# Altium integrated library WE-MAIA_rev15a.intlib: 46 symbols
Pins are listed as number, name and electrical type; pins without a type are passive.

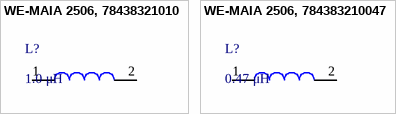
[diagram p0: symbols WE-MAIA 2506, 78438321010 to WE-MAIA 2506, 784383210047]

## WE-MAIA 2506, 78438321010
designator L?, comment 1.0 μH
WE-MAIA SMD Metal Alloy Power Inductor, Inductance = 1.0 μH; partNo: 78438321010; Manufacturer: Wurth Elektronik; Inductance: 1.0 μH; ComponentLink1Description: Manufacturer; ComponentLink1URL: http://www.we-online.de; Created by: Baojun Chen; Created Date: Nov.2015; ComponentLink2Description: Datasheet; ComponentLink2URL: http://katalog.we-online.de/pbs/datasheet/784383210047.pdf
footprint WE-MAIA_2506
pins: 1, 2

## WE-MAIA 2506, 784383210047
designator L?, comment 0.47 μH
WE-MAIA SMD Metal Alloy Power Inductor, Inductance = 0.47 μH; partNo: 784383210047; Manufacturer: Wurth Elektronik; Inductance: 0.47 μH; ComponentLink1Description: Manufacturer; ComponentLink1URL: http://www.we-online.de; Created by: Baojun Chen; Created Date: Nov.2015; ComponentLink2Description: Datasheet; ComponentLink2URL: http://katalog.we-online.de/pbs/datasheet/78438321010.pdf
footprint WE-MAIA_2506
pins: 1, 2


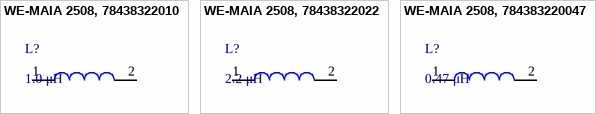
[diagram p1: symbols WE-MAIA 2508, 78438322010 to WE-MAIA 2508, 784383220047]

## WE-MAIA 2508, 78438322010
designator L?, comment 1.0 μH
WE-MAIA SMD Metal Alloy Power Inductor, Inductance = 1.0 μH; partNo: 78438322010; Manufacturer: Wurth Elektronik; Inductance: 1.0 μH; ComponentLink1Description: Manufacturer; ComponentLink1URL: http://www.we-online.de; Created by: Baojun Chen; Created Date: Nov.2015; ComponentLink2Description: Datasheet; ComponentLink2URL: http://katalog.we-online.de/pbs/datasheet/78438322010.pdf
footprint WE-MAIA_2508
pins: 1, 2

## WE-MAIA 2508, 78438322022
designator L?, comment 2.2 μH
WE-MAIA SMD Metal Alloy Power Inductor, Inductance = 2.2 μH; partNo: 78438322022; Manufacturer: Wurth Elektronik; Inductance: 2.2 μH; ComponentLink1Description: Manufacturer; ComponentLink1URL: http://www.we-online.de; Created by: Baojun Chen; Created Date: Nov.2015; ComponentLink2Description: Datasheet; ComponentLink2URL: http://katalog.we-online.de/pbs/datasheet/78438322022.pdf
footprint WE-MAIA_2508
pins: 1, 2

## WE-MAIA 2508, 784383220047
designator L?, comment 0.47 μH
WE-MAIA SMD Metal Alloy Power Inductor, Inductance = 0.47 μH; partNo: 784383220047; Manufacturer: Wurth Elektronik; Inductance: 0.47 μH; ComponentLink1Description: Manufacturer; ComponentLink1URL: http://www.we-online.de; Created by: Baojun Chen; Created Date: Nov.2015; ComponentLink2Description: Datasheet; ComponentLink2URL: http://katalog.we-online.de/pbs/datasheet/784383220047.pdf
footprint WE-MAIA_2508
pins: 1, 2


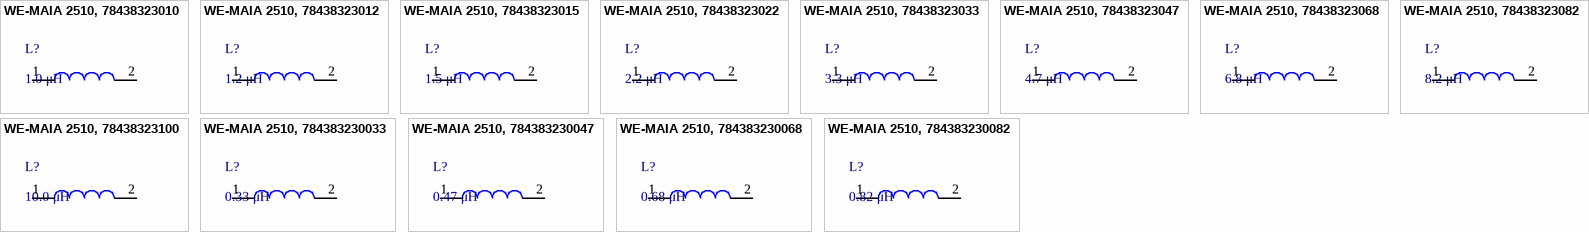
[diagram p2: symbols WE-MAIA 2510, 78438323010 to WE-MAIA 2510, 784383230082]

## WE-MAIA 2510, 78438323010
designator L?, comment 1.0 μH
WE-MAIA SMD Metal Alloy Power Inductor, Inductance = 1.0 μH; partNo: 78438323010; Manufacturer: Wurth Elektronik; Inductance: 1.0 μH; ComponentLink1Description: Manufacturer; ComponentLink1URL: http://www.we-online.de; Created by: Baojun Chen; Created Date: Nov.2015; ComponentLink2Description: Datasheet; ComponentLink2URL: http://katalog.we-online.de/pbs/datasheet/78438323010.pdf
footprint WE-MAIA_2510
pins: 1, 2

## WE-MAIA 2510, 78438323012
designator L?, comment 1.2 μH
WE-MAIA SMD Metal Alloy Power Inductor, Inductance = 1.2 μH; partNo: 78438323012; Manufacturer: Wurth Elektronik; Inductance: 1.2 μH; ComponentLink1Description: Manufacturer; ComponentLink1URL: http://www.we-online.de; Created by: Baojun Chen; Created Date: Nov.2015; ComponentLink2Description: Datasheet; ComponentLink2URL: http://katalog.we-online.de/pbs/datasheet/78438323012.pdf
footprint WE-MAIA_2510
pins: 1, 2

## WE-MAIA 2510, 78438323015
designator L?, comment 1.5 μH
WE-MAIA SMD Metal Alloy Power Inductor, Inductance = 1.5 μH; partNo: 78438323015; Manufacturer: Wurth Elektronik; Inductance: 1.5 μH; ComponentLink1Description: Manufacturer; ComponentLink1URL: http://www.we-online.de; Created by: Baojun Chen; Created Date: Nov.2015; ComponentLink2Description: Datasheet; ComponentLink2URL: http://katalog.we-online.de/pbs/datasheet/78438323015.pdf
footprint WE-MAIA_2510
pins: 1, 2

## WE-MAIA 2510, 78438323022
designator L?, comment 2.2 μH
WE-MAIA SMD Metal Alloy Power Inductor, Inductance = 2.2 μH; partNo: 78438323022; Manufacturer: Wurth Elektronik; Inductance: 2.2 μH; ComponentLink1Description: Manufacturer; ComponentLink1URL: http://www.we-online.de; Created by: Baojun Chen; Created Date: Nov.2015; ComponentLink2Description: Datasheet; ComponentLink2URL: http://katalog.we-online.de/pbs/datasheet/78438323022.pdf
footprint WE-MAIA_2510
pins: 1, 2

## WE-MAIA 2510, 78438323033
designator L?, comment 3.3 μH
WE-MAIA SMD Metal Alloy Power Inductor, Inductance = 3.3 μH; partNo: 78438323033; Manufacturer: Wurth Elektronik; Inductance: 3.3 μH; ComponentLink1Description: Manufacturer; ComponentLink1URL: http://www.we-online.de; Created by: Baojun Chen; Created Date: Nov.2015; ComponentLink2Description: Datasheet; ComponentLink2URL: http://katalog.we-online.de/pbs/datasheet/78438323033.pdf
footprint WE-MAIA_2510
pins: 1, 2

## WE-MAIA 2510, 78438323047
designator L?, comment 4.7 μH
WE-MAIA SMD Metal Alloy Power Inductor, Inductance = 4.7 μH; partNo: 78438323047; Manufacturer: Wurth Elektronik; Inductance: 4.7 μH; ComponentLink1Description: Manufacturer; ComponentLink1URL: http://www.we-online.de; Created by: Baojun Chen; Created Date: Nov.2015; ComponentLink2Description: Datasheet; ComponentLink2URL: http://katalog.we-online.de/pbs/datasheet/78438323047.pdf
footprint WE-MAIA_2510
pins: 1, 2

## WE-MAIA 2510, 78438323068
designator L?, comment 6.8 μH
WE-MAIA SMD Metal Alloy Power Inductor, Inductance = 6.8 μH; partNo: 78438323068; Manufacturer: Wurth Elektronik; Inductance: 6.8 μH; ComponentLink1Description: Manufacturer; ComponentLink1URL: http://www.we-online.de; Created by: Baojun Chen; Created Date: Nov.2015; ComponentLink2Description: Datasheet; ComponentLink2URL: http://katalog.we-online.de/pbs/datasheet/78438323068.pdf
footprint WE-MAIA_2510
pins: 1, 2

## WE-MAIA 2510, 78438323082
designator L?, comment 8.2 μH
WE-MAIA SMD Metal Alloy Power Inductor, Inductance = 8.2 μH; partNo: 78438323082; Manufacturer: Wurth Elektronik; Inductance: 8.2 μH; ComponentLink1Description: Manufacturer; ComponentLink1URL: http://www.we-online.de; Created by: Baojun Chen; Created Date: Nov.2015; ComponentLink2Description: Datasheet; ComponentLink2URL: http://katalog.we-online.de/pbs/datasheet/78438323082.pdf
footprint WE-MAIA_2510
pins: 1, 2

## WE-MAIA 2510, 78438323100
designator L?, comment 10.0 μH
WE-MAIA SMD Metal Alloy Power Inductor, Inductance = 10.0 μH; partNo: 78438323100; Manufacturer: Wurth Elektronik; Inductance: 10.0 μH; ComponentLink1Description: Manufacturer; ComponentLink1URL: http://www.we-online.de; Created by: Baojun Chen; Created Date: Nov.2015; ComponentLink2Description: Datasheet; ComponentLink2URL: http://katalog.we-online.de/pbs/datasheet/78438323100.pdf
footprint WE-MAIA_2510
pins: 1, 2

## WE-MAIA 2510, 784383230033
designator L?, comment 0.33 μH
WE-MAIA SMD Metal Alloy Power Inductor, Inductance = 0.33 μH; partNo: 784383230033; Manufacturer: Wurth Elektronik; Inductance: 0.33 μH; ComponentLink1Description: Manufacturer; ComponentLink1URL: http://www.we-online.de; Created by: Baojun Chen; Created Date: Nov.2015; ComponentLink2Description: Datasheet; ComponentLink2URL: http://katalog.we-online.de/pbs/datasheet/784383230033.pdf
footprint WE-MAIA_2510
pins: 1, 2

## WE-MAIA 2510, 784383230047
designator L?, comment 0.47 μH
WE-MAIA SMD Metal Alloy Power Inductor, Inductance = 0.47 μH; partNo: 784383230047; Manufacturer: Wurth Elektronik; Inductance: 0.47 μH; ComponentLink1Description: Manufacturer; ComponentLink1URL: http://www.we-online.de; Created by: Baojun Chen; Created Date: Nov.2015; ComponentLink2Description: Datasheet; ComponentLink2URL: http://katalog.we-online.de/pbs/datasheet/784383230047.pdf
footprint WE-MAIA_2510
pins: 1, 2

## WE-MAIA 2510, 784383230068
designator L?, comment 0.68 μH
WE-MAIA SMD Metal Alloy Power Inductor, Inductance = 0.68 μH; partNo: 784383230068; Manufacturer: Wurth Elektronik; Inductance: 0.68 μH; ComponentLink1Description: Manufacturer; ComponentLink1URL: http://www.we-online.de; Created by: Baojun Chen; Created Date: Nov.2015; ComponentLink2Description: Datasheet; ComponentLink2URL: http://katalog.we-online.de/pbs/datasheet/784383230068.pdf
footprint WE-MAIA_2510
pins: 1, 2

## WE-MAIA 2510, 784383230082
designator L?, comment 0.82 μH
WE-MAIA SMD Metal Alloy Power Inductor, Inductance = 0.82 μH; partNo: 784383230082; Manufacturer: Wurth Elektronik; Inductance: 0.82 μH; ComponentLink1Description: Manufacturer; ComponentLink1URL: http://www.we-online.de; Created by: Baojun Chen; Created Date: Nov.2015; ComponentLink2Description: Datasheet; ComponentLink2URL: http://katalog.we-online.de/pbs/datasheet/784383230082.pdf
footprint WE-MAIA_2510
pins: 1, 2


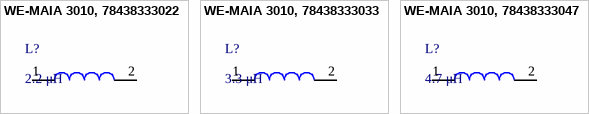
[diagram p3: symbols WE-MAIA 3010, 78438333022 to WE-MAIA 3010, 78438333047]

## WE-MAIA 3010, 78438333022
designator L?, comment 2.2 μH
WE-MAIA SMD Metal Alloy Power Inductor, Inductance = 2.2 μH; partNo: 78438333022; Manufacturer: Wurth Elektronik; Inductance: 2.2 μH; ComponentLink1Description: Manufacturer; ComponentLink1URL: http://www.we-online.de; Created by: Baojun Chen; Created Date: Nov.2015; ComponentLink2Description: Datasheet; ComponentLink2URL: http://katalog.we-online.de/pbs/datasheet/78438333022.pdf
footprint WE-MAIA_3010
pins: 1, 2

## WE-MAIA 3010, 78438333033
designator L?, comment 3.3 μH
WE-MAIA SMD Metal Alloy Power Inductor, Inductance = 3.3 μH; partNo: 78438333033; Manufacturer: Wurth Elektronik; Inductance: 3.3 μH; ComponentLink1Description: Manufacturer; ComponentLink1URL: http://www.we-online.de; Created by: Baojun Chen; Created Date: Nov.2015; ComponentLink2Description: Datasheet; ComponentLink2URL: http://katalog.we-online.de/pbs/datasheet/78438333033.pdf
footprint WE-MAIA_3010
pins: 1, 2

## WE-MAIA 3010, 78438333047
designator L?, comment 4.7 μH
WE-MAIA SMD Metal Alloy Power Inductor, Inductance = 4.7 μH; partNo: 78438333047; Manufacturer: Wurth Elektronik; Inductance: 4.7 μH; ComponentLink1Description: Manufacturer; ComponentLink1URL: http://www.we-online.de; Created by: Baojun Chen; Created Date: Nov.2015; ComponentLink2Description: Datasheet; ComponentLink2URL: http://katalog.we-online.de/pbs/datasheet/78438333047.pdf
footprint WE-MAIA_3010
pins: 1, 2


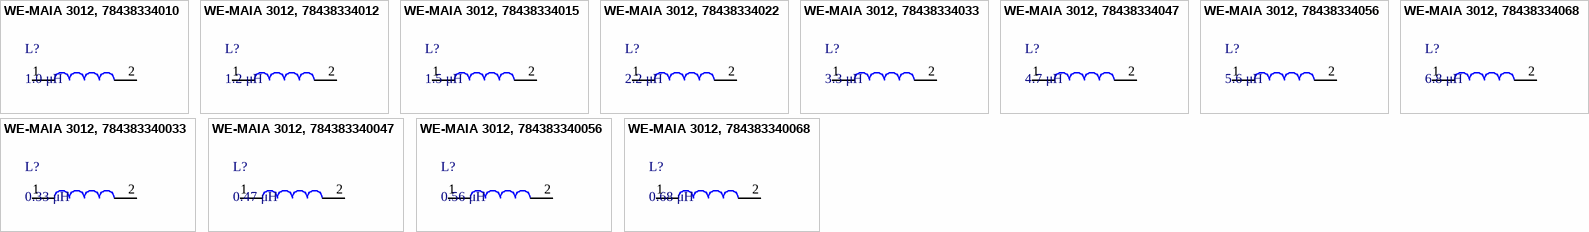
[diagram p4: symbols WE-MAIA 3012, 78438334010 to WE-MAIA 3012, 784383340068]

## WE-MAIA 3012, 78438334010
designator L?, comment 1.0 μH
WE-MAIA SMD Metal Alloy Power Inductor, Inductance = 1.0 μH; partNo: 78438334010; Manufacturer: Wurth Elektronik; Inductance: 1.0 μH; ComponentLink1Description: Manufacturer; ComponentLink1URL: http://www.we-online.de; Created by: Baojun Chen; Created Date: Nov.2015; ComponentLink2Description: Datasheet; ComponentLink2URL: http://katalog.we-online.de/pbs/datasheet/78438334010.pdf
footprint WE-MAIA_3012
pins: 1, 2

## WE-MAIA 3012, 78438334012
designator L?, comment 1.2 μH
WE-MAIA SMD Metal Alloy Power Inductor, Inductance = 1.2 μH; partNo: 78438334012; Manufacturer: Wurth Elektronik; Inductance: 1.2 μH; ComponentLink1Description: Manufacturer; ComponentLink1URL: http://www.we-online.de; Created by: Baojun Chen; Created Date: Nov.2015; ComponentLink2Description: Datasheet; ComponentLink2URL: http://katalog.we-online.de/pbs/datasheet/78438334012.pdf
footprint WE-MAIA_3012
pins: 1, 2

## WE-MAIA 3012, 78438334015
designator L?, comment 1.5 μH
WE-MAIA SMD Metal Alloy Power Inductor, Inductance = 1.5 μH; partNo: 78438334015; Manufacturer: Wurth Elektronik; Inductance: 1.5 μH; ComponentLink1Description: Manufacturer; ComponentLink1URL: http://www.we-online.de; Created by: Baojun Chen; Created Date: Nov.2015; ComponentLink2Description: Datasheet; ComponentLink2URL: http://katalog.we-online.de/pbs/datasheet/78438334015.pdf
footprint WE-MAIA_3012
pins: 1, 2

## WE-MAIA 3012, 78438334022
designator L?, comment 2.2 μH
WE-MAIA SMD Metal Alloy Power Inductor, Inductance = 2.2 μH; partNo: 78438334022; Manufacturer: Wurth Elektronik; Inductance: 2.2 μH; ComponentLink1Description: Manufacturer; ComponentLink1URL: http://www.we-online.de; Created by: Baojun Chen; Created Date: Nov.2015; ComponentLink2Description: Datasheet; ComponentLink2URL: http://katalog.we-online.de/pbs/datasheet/78438334022.pdf
footprint WE-MAIA_3012
pins: 1, 2

## WE-MAIA 3012, 78438334033
designator L?, comment 3.3 μH
WE-MAIA SMD Metal Alloy Power Inductor, Inductance = 3.3 μH; partNo: 78438334033; Manufacturer: Wurth Elektronik; Inductance: 3.3 μH; ComponentLink1Description: Manufacturer; ComponentLink1URL: http://www.we-online.de; Created by: Baojun Chen; Created Date: Nov.2015; ComponentLink2Description: Datasheet; ComponentLink2URL: http://katalog.we-online.de/pbs/datasheet/78438334033.pdf
footprint WE-MAIA_3012
pins: 1, 2

## WE-MAIA 3012, 78438334047
designator L?, comment 4.7 μH
WE-MAIA SMD Metal Alloy Power Inductor, Inductance = 4.7 μH; partNo: 78438334047; Manufacturer: Wurth Elektronik; Inductance: 4.7 μH; ComponentLink1Description: Manufacturer; ComponentLink1URL: http://www.we-online.de; Created by: Baojun Chen; Created Date: Nov.2015; ComponentLink2Description: Datasheet; ComponentLink2URL: http://katalog.we-online.de/pbs/datasheet/78438334047.pdf
footprint WE-MAIA_3012
pins: 1, 2

## WE-MAIA 3012, 78438334056
designator L?, comment 5.6 μH
WE-MAIA SMD Metal Alloy Power Inductor, Inductance = 5.6 μH; partNo: 78438334056; Manufacturer: Wurth Elektronik; Inductance: 5.6 μH; ComponentLink1Description: Manufacturer; ComponentLink1URL: http://www.we-online.de; Created by: Baojun Chen; Created Date: Nov.2015; ComponentLink2Description: Datasheet; ComponentLink2URL: http://katalog.we-online.de/pbs/datasheet/78438334056.pdf
footprint WE-MAIA_3012
pins: 1, 2

## WE-MAIA 3012, 78438334068
designator L?, comment 6.8 μH
WE-MAIA SMD Metal Alloy Power Inductor, Inductance = 6.8 μH; partNo: 78438334068; Manufacturer: Wurth Elektronik; Inductance: 6.8 μH; ComponentLink1Description: Manufacturer; ComponentLink1URL: http://www.we-online.de; Created by: Baojun Chen; Created Date: Nov.2015; ComponentLink2Description: Datasheet; ComponentLink2URL: http://katalog.we-online.de/pbs/datasheet/78438334068.pdf
footprint WE-MAIA_3012
pins: 1, 2

## WE-MAIA 3012, 784383340033
designator L?, comment 0.33 μH
WE-MAIA SMD Metal Alloy Power Inductor, Inductance = 0.33 μH; partNo: 784383340033; Manufacturer: Wurth Elektronik; Inductance: 0.33 μH; ComponentLink1Description: Manufacturer; ComponentLink1URL: http://www.we-online.de; Created by: Baojun Chen; Created Date: Nov.2015; ComponentLink2Description: Datasheet; ComponentLink2URL: http://katalog.we-online.de/pbs/datasheet/784383340033.pdf
footprint WE-MAIA_3012
pins: 1, 2

## WE-MAIA 3012, 784383340047
designator L?, comment 0.47 μH
WE-MAIA SMD Metal Alloy Power Inductor, Inductance = 0.47 μH; partNo: 784383340047; Manufacturer: Wurth Elektronik; Inductance: 0.47 μH; ComponentLink1Description: Manufacturer; ComponentLink1URL: http://www.we-online.de; Created by: Baojun Chen; Created Date: Nov.2015; ComponentLink2Description: Datasheet; ComponentLink2URL: http://katalog.we-online.de/pbs/datasheet/784383340047.pdf
footprint WE-MAIA_3012
pins: 1, 2

## WE-MAIA 3012, 784383340056
designator L?, comment 0.56 μH
WE-MAIA SMD Metal Alloy Power Inductor, Inductance = 0.56 μH; partNo: 784383340056; Manufacturer: Wurth Elektronik; Inductance: 0.56 μH; ComponentLink1Description: Manufacturer; ComponentLink1URL: http://www.we-online.de; Created by: Baojun Chen; Created Date: Nov.2015; ComponentLink2Description: Datasheet; ComponentLink2URL: http://katalog.we-online.de/pbs/datasheet/784383340056.pdf
footprint WE-MAIA_3012
pins: 1, 2

## WE-MAIA 3012, 784383340068
designator L?, comment 0.68 μH
WE-MAIA SMD Metal Alloy Power Inductor, Inductance = 0.68 μH; partNo: 784383340068; Manufacturer: Wurth Elektronik; Inductance: 0.68 μH; ComponentLink1Description: Manufacturer; ComponentLink1URL: http://www.we-online.de; Created by: Baojun Chen; Created Date: Nov.2015; ComponentLink2Description: Datasheet; ComponentLink2URL: http://katalog.we-online.de/pbs/datasheet/784383340068.pdf
footprint WE-MAIA_3012
pins: 1, 2


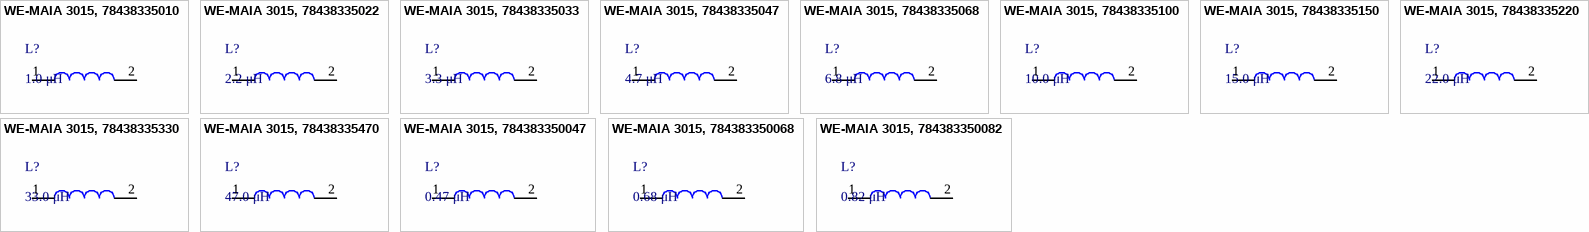
[diagram p5: symbols WE-MAIA 3015, 78438335010 to WE-MAIA 3015, 784383350082]

## WE-MAIA 3015, 78438335010
designator L?, comment 1.0 μH
WE-MAIA SMD Metal Alloy Power Inductor, Inductance = 1.0 μH; partNo: 78438335010; Manufacturer: Wurth Elektronik; Inductance: 1.0 μH; ComponentLink1Description: Manufacturer; ComponentLink1URL: http://www.we-online.de; Created by: Baojun Chen; Created Date: Nov.2015; ComponentLink2Description: Datasheet; ComponentLink2URL: http://katalog.we-online.de/pbs/datasheet/78438335010.pdf
footprint WE-MAIA_3015
pins: 1, 2

## WE-MAIA 3015, 78438335022
designator L?, comment 2.2 μH
WE-MAIA SMD Metal Alloy Power Inductor, Inductance = 2.2 μH; partNo: 78438335022; Manufacturer: Wurth Elektronik; Inductance: 2.2 μH; ComponentLink1Description: Manufacturer; ComponentLink1URL: http://www.we-online.de; Created by: Baojun Chen; Created Date: Nov.2015; ComponentLink2Description: Datasheet; ComponentLink2URL: http://katalog.we-online.de/pbs/datasheet/78438335022.pdf
footprint WE-MAIA_3015
pins: 1, 2

## WE-MAIA 3015, 78438335033
designator L?, comment 3.3 μH
WE-MAIA SMD Metal Alloy Power Inductor, Inductance = 3.3 μH; partNo: 78438335033; Manufacturer: Wurth Elektronik; Inductance: 3.3 μH; ComponentLink1Description: Manufacturer; ComponentLink1URL: http://www.we-online.de; Created by: Baojun Chen; Created Date: Nov.2015; ComponentLink2Description: Datasheet; ComponentLink2URL: http://katalog.we-online.de/pbs/datasheet/78438335033.pdf
footprint WE-MAIA_3015
pins: 1, 2

## WE-MAIA 3015, 78438335047
designator L?, comment 4.7 μH
WE-MAIA SMD Metal Alloy Power Inductor, Inductance = 4.7 μH; partNo: 78438335047; Manufacturer: Wurth Elektronik; Inductance: 4.7 μH; ComponentLink1Description: Manufacturer; ComponentLink1URL: http://www.we-online.de; Created by: Baojun Chen; Created Date: Nov.2015; ComponentLink2Description: Datasheet; ComponentLink2URL: http://katalog.we-online.de/pbs/datasheet/78438335047.pdf
footprint WE-MAIA_3015
pins: 1, 2

## WE-MAIA 3015, 78438335068
designator L?, comment 6.8 μH
WE-MAIA SMD Metal Alloy Power Inductor, Inductance = 6.8 μH; partNo: 78438335068; Manufacturer: Wurth Elektronik; Inductance: 6.8 μH; ComponentLink1Description: Manufacturer; ComponentLink1URL: http://www.we-online.de; Created by: Baojun Chen; Created Date: Nov.2015; ComponentLink2Description: Datasheet; ComponentLink2URL: http://katalog.we-online.de/pbs/datasheet/78438335068.pdf
footprint WE-MAIA_3015
pins: 1, 2

## WE-MAIA 3015, 78438335100
designator L?, comment 10.0 μH
WE-MAIA SMD Metal Alloy Power Inductor, Inductance = 10.0 μH; partNo: 78438335100; Manufacturer: Wurth Elektronik; Inductance: 10.0 μH; ComponentLink1Description: Manufacturer; ComponentLink1URL: http://www.we-online.de; Created by: Baojun Chen; Created Date: Nov.2015; ComponentLink2Description: Datasheet; ComponentLink2URL: http://katalog.we-online.de/pbs/datasheet/78438335100.pdf
footprint WE-MAIA_3015
pins: 1, 2

## WE-MAIA 3015, 78438335150
designator L?, comment 15.0 μH
WE-MAIA SMD Metal Alloy Power Inductor, Inductance = 15.0 μH; partNo: 78438335150; Manufacturer: Wurth Elektronik; Inductance: 15.0 μH; ComponentLink1Description: Manufacturer; ComponentLink1URL: http://www.we-online.de; Created by: Baojun Chen; Created Date: Nov.2015; ComponentLink2Description: Datasheet; ComponentLink2URL: http://katalog.we-online.de/pbs/datasheet/78438335150.pdf
footprint WE-MAIA_3015
pins: 1, 2

## WE-MAIA 3015, 78438335220
designator L?, comment 22.0 μH
WE-MAIA SMD Metal Alloy Power Inductor, Inductance = 22.0 μH; partNo: 78438335220; Manufacturer: Wurth Elektronik; Inductance: 22.0 μH; ComponentLink1Description: Manufacturer; ComponentLink1URL: http://www.we-online.de; Created by: Baojun Chen; Created Date: Nov.2015; ComponentLink2Description: Datasheet; ComponentLink2URL: http://katalog.we-online.de/pbs/datasheet/78438335220.pdf
footprint WE-MAIA_3015
pins: 1, 2

## WE-MAIA 3015, 78438335330
designator L?, comment 33.0 μH
WE-MAIA SMD Metal Alloy Power Inductor, Inductance = 33.0 μH; partNo: 78438335330; Manufacturer: Wurth Elektronik; Inductance: 33.0 μH; ComponentLink1Description: Manufacturer; ComponentLink1URL: http://www.we-online.de; Created by: Baojun Chen; Created Date: Nov.2015; ComponentLink2Description: Datasheet; ComponentLink2URL: http://katalog.we-online.de/pbs/datasheet/78438335330.pdf
footprint WE-MAIA_3015
pins: 1, 2

## WE-MAIA 3015, 78438335470
designator L?, comment 47.0 μH
WE-MAIA SMD Metal Alloy Power Inductor, Inductance = 47.0 μH; partNo: 78438335470; Manufacturer: Wurth Elektronik; Inductance: 47.0 μH; ComponentLink1Description: Manufacturer; ComponentLink1URL: http://www.we-online.de; Created by: Baojun Chen; Created Date: Nov.2015; ComponentLink2Description: Datasheet; ComponentLink2URL: http://katalog.we-online.de/pbs/datasheet/78438335470.pdf
footprint WE-MAIA_3015
pins: 1, 2

## WE-MAIA 3015, 784383350047
designator L?, comment 0.47 μH
WE-MAIA SMD Metal Alloy Power Inductor, Inductance = 0.47 μH; partNo: 784383350047; Manufacturer: Wurth Elektronik; Inductance: 0.47 μH; ComponentLink1Description: Manufacturer; ComponentLink1URL: http://www.we-online.de; Created by: Baojun Chen; Created Date: Nov.2015; ComponentLink2Description: Datasheet; ComponentLink2URL: http://katalog.we-online.de/pbs/datasheet/784383350047.pdf
footprint WE-MAIA_3015
pins: 1, 2

## WE-MAIA 3015, 784383350068
designator L?, comment 0.68 μH
WE-MAIA SMD Metal Alloy Power Inductor, Inductance = 0.68 μH; partNo: 784383350068; Manufacturer: Wurth Elektronik; Inductance: 0.68 μH; ComponentLink1Description: Manufacturer; ComponentLink1URL: http://www.we-online.de; Created by: Baojun Chen; Created Date: Nov.2015; ComponentLink2Description: Datasheet; ComponentLink2URL: http://katalog.we-online.de/pbs/datasheet/784383350068.pdf
footprint WE-MAIA_3015
pins: 1, 2

## WE-MAIA 3015, 784383350082
designator L?, comment 0.82 μH
WE-MAIA SMD Metal Alloy Power Inductor, Inductance = 0.82 μH; partNo: 784383350082; Manufacturer: Wurth Elektronik; Inductance: 0.82 μH; ComponentLink1Description: Manufacturer; ComponentLink1URL: http://www.we-online.de; Created by: Baojun Chen; Created Date: Nov.2015; ComponentLink2Description: Datasheet; ComponentLink2URL: http://katalog.we-online.de/pbs/datasheet/784383350082.pdf
footprint WE-MAIA_3015
pins: 1, 2